# Altium footprint library USB4080-03-A_REVA.PcbLib: 1 footprints
Each footprint in its own frame and in the unit in brackets; x right, y up, seen from the top. Pads: shape width x height; smd on the part's side, far side on the other; paste and mask are expansions set on the pad; w line width, h text height; cw(c..) or ccw(c..) is an arc to the next point about the centre after c.
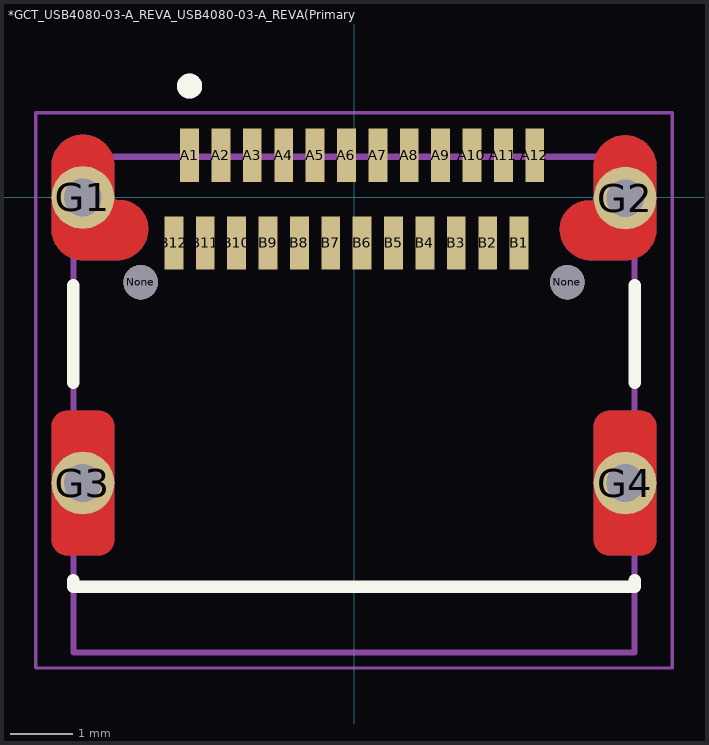
[diagram p0: the footprint, top view; thin cyan lines are the x and y axes]

## *GCT_USB4080-03-A_REVA_USB4080-03-A_REVA(Primary) [mm]
pads (30):
  rect 0.3x0.85 smd: A1(-2.62,0.675) A2(-2.12,0.675) A3(-1.62,0.675) A4(-1.12,0.675) A5(-0.62,0.675) A6(-0.12,0.675) A7(0.38,0.675) A8(0.88,0.675) A9(1.38,0.675) A10(1.88,0.675) A11(2.38,0.675) A12(2.88,0.675) B1(2.63,-0.725) B2(2.13,-0.725) B3(1.63,-0.725) B4(1.13,-0.725) B5(0.63,-0.725) B6(0.13,-0.725) B7(-0.37,-0.725) B8(-0.87,-0.725) B9(-1.37,-0.725) B10(-1.87,-0.725) B11(-2.37,-0.725) B12(-2.87,-0.725)
  round 1 hole 0.6: G1(-4.32,0) G2(4.32,-0.01) G3(-4.32,-4.55) G4(4.32,-4.55)
  round 0.55 hole 0.55 unplated: None(-3.4,-1.35) None(3.4,-1.35)
Top Layer:
  region: 4.57,-5.7 4.07,-5.7 4.057,-5.7 4.044,-5.699 4.031,-5.697 4.018,-5.695 4.005,-5.691 3.993,-5.688 3.98,-5.683 3.968,-5.678 3.956,-5.673 3.945,-5.667 3.934,-5.66 3.923,-5.652 3.913,-5.644 3.903,-5.636 3.893,-5.627 3.884,-5.617 3.876,-5.607 3.868,-5.597 3.86,-5.586 3.853,-5.575 3.847,-5.563 3.842,-5.552 3.837,-5.54 3.832,-5.527 3.829,-5.515 3.825,-5.502 3.823,-5.489 3.821,-5.476 3.82,-5.463 3.82,-5.45 3.82,-3.65 3.82,-3.637 3.821,-3.624 3.823,-3.611 3.825,-3.598 3.829,-3.585 3.832,-3.573 3.837,-3.56 3.842,-3.548 3.847,-3.537 3.853,-3.525 3.86,-3.514 3.868,-3.503 3.876,-3.493 3.884,-3.483 3.893,-3.473 3.903,-3.464 3.913,-3.456 3.923,-3.448 3.934,-3.44 3.945,-3.433 3.956,-3.427 3.968,-3.422 3.98,-3.417 3.993,-3.412 4.005,-3.409 4.018,-3.405 4.031,-3.403 4.044,-3.401 4.057,-3.4 4.07,-3.4 4.57,-3.4 4.583,-3.4 4.596,-3.401 4.609,-3.403 4.622,-3.405 4.635,-3.409 4.647,-3.412 4.66,-3.417 4.672,-3.422 4.684,-3.427 4.695,-3.433 4.706,-3.44 4.717,-3.448 4.727,-3.456 4.737,-3.464 4.747,-3.473 4.756,-3.483 4.764,-3.493 4.772,-3.503 4.78,-3.514 4.787,-3.525 4.793,-3.537 4.798,-3.548 4.803,-3.56 4.808,-3.573 4.811,-3.585 4.815,-3.598 4.817,-3.611 4.819,-3.624 4.82,-3.637 4.82,-3.65 4.82,-5.45 4.82,-5.463 4.819,-5.476 4.817,-5.489 4.815,-5.502 4.811,-5.515 4.808,-5.527 4.803,-5.54 4.798,-5.552 4.793,-5.563 4.787,-5.575 4.78,-5.586 4.772,-5.597 4.764,-5.607 4.756,-5.617 4.747,-5.627 4.737,-5.636 4.727,-5.644 4.717,-5.652 4.706,-5.66 4.695,-5.667 4.684,-5.673 4.672,-5.678 4.66,-5.683 4.647,-5.688 4.635,-5.691 4.622,-5.695 4.609,-5.697 4.596,-5.699 4.583,-5.7
  region: -4.07,-5.7 -4.57,-5.7 -4.583,-5.7 -4.596,-5.699 -4.609,-5.697 -4.622,-5.695 -4.635,-5.691 -4.647,-5.688 -4.66,-5.683 -4.672,-5.678 -4.684,-5.673 -4.695,-5.667 -4.706,-5.66 -4.717,-5.652 -4.727,-5.644 -4.737,-5.636 -4.747,-5.627 -4.756,-5.617 -4.764,-5.607 -4.772,-5.597 -4.78,-5.586 -4.787,-5.575 -4.793,-5.563 -4.798,-5.552 -4.803,-5.54 -4.808,-5.527 -4.811,-5.515 -4.815,-5.502 -4.817,-5.489 -4.819,-5.476 -4.82,-5.463 -4.82,-5.45 -4.82,-3.65 -4.82,-3.637 -4.819,-3.624 -4.817,-3.611 -4.815,-3.598 -4.811,-3.585 -4.808,-3.573 -4.803,-3.56 -4.798,-3.548 -4.793,-3.537 -4.787,-3.525 -4.78,-3.514 -4.772,-3.503 -4.764,-3.493 -4.756,-3.483 -4.747,-3.473 -4.737,-3.464 -4.727,-3.456 -4.717,-3.448 -4.706,-3.44 -4.695,-3.433 -4.684,-3.427 -4.672,-3.422 -4.66,-3.417 -4.647,-3.412 -4.635,-3.409 -4.622,-3.405 -4.609,-3.403 -4.596,-3.401 -4.583,-3.4 -4.57,-3.4 -4.07,-3.4 -4.057,-3.4 -4.044,-3.401 -4.031,-3.403 -4.018,-3.405 -4.005,-3.409 -3.993,-3.412 -3.98,-3.417 -3.968,-3.422 -3.956,-3.427 -3.945,-3.433 -3.934,-3.44 -3.923,-3.448 -3.913,-3.456 -3.903,-3.464 -3.893,-3.473 -3.884,-3.483 -3.876,-3.493 -3.868,-3.503 -3.86,-3.514 -3.853,-3.525 -3.847,-3.537 -3.842,-3.548 -3.837,-3.56 -3.832,-3.573 -3.829,-3.585 -3.825,-3.598 -3.823,-3.611 -3.821,-3.624 -3.82,-3.637 -3.82,-3.65 -3.82,-5.45 -3.82,-5.463 -3.821,-5.476 -3.823,-5.489 -3.825,-5.502 -3.829,-5.515 -3.832,-5.527 -3.837,-5.54 -3.842,-5.552 -3.847,-5.563 -3.853,-5.575 -3.86,-5.586 -3.868,-5.597 -3.876,-5.607 -3.884,-5.617 -3.893,-5.627 -3.903,-5.636 -3.913,-5.644 -3.923,-5.652 -3.934,-5.66 -3.945,-5.667 -3.956,-5.673 -3.968,-5.678 -3.98,-5.683 -3.993,-5.688 -4.005,-5.691 -4.018,-5.695 -4.031,-5.697 -4.044,-5.699 -4.057,-5.7
  region: 185 vertices and 0 holes, not listed, extent 3.28,-1 4.82,0.99
  region: 186 vertices and 0 holes, not listed, extent -4.82,-1 -3.28,1
Bottom Layer:
  region: 4.57,-5.7 4.07,-5.7 4.057,-5.7 4.044,-5.699 4.031,-5.697 4.018,-5.695 4.005,-5.691 3.993,-5.688 3.98,-5.683 3.968,-5.678 3.956,-5.673 3.945,-5.667 3.934,-5.66 3.923,-5.652 3.913,-5.644 3.903,-5.636 3.893,-5.627 3.884,-5.617 3.876,-5.607 3.868,-5.597 3.86,-5.586 3.853,-5.575 3.847,-5.563 3.842,-5.552 3.837,-5.54 3.832,-5.527 3.829,-5.515 3.825,-5.502 3.823,-5.489 3.821,-5.476 3.82,-5.463 3.82,-5.45 3.82,-3.65 3.82,-3.637 3.821,-3.624 3.823,-3.611 3.825,-3.598 3.829,-3.585 3.832,-3.573 3.837,-3.56 3.842,-3.548 3.847,-3.537 3.853,-3.525 3.86,-3.514 3.868,-3.503 3.876,-3.493 3.884,-3.483 3.893,-3.473 3.903,-3.464 3.913,-3.456 3.923,-3.448 3.934,-3.44 3.945,-3.433 3.956,-3.427 3.968,-3.422 3.98,-3.417 3.993,-3.412 4.005,-3.409 4.018,-3.405 4.031,-3.403 4.044,-3.401 4.057,-3.4 4.07,-3.4 4.57,-3.4 4.583,-3.4 4.596,-3.401 4.609,-3.403 4.622,-3.405 4.635,-3.409 4.647,-3.412 4.66,-3.417 4.672,-3.422 4.684,-3.427 4.695,-3.433 4.706,-3.44 4.717,-3.448 4.727,-3.456 4.737,-3.464 4.747,-3.473 4.756,-3.483 4.764,-3.493 4.772,-3.503 4.78,-3.514 4.787,-3.525 4.793,-3.537 4.798,-3.548 4.803,-3.56 4.808,-3.573 4.811,-3.585 4.815,-3.598 4.817,-3.611 4.819,-3.624 4.82,-3.637 4.82,-3.65 4.82,-5.45 4.82,-5.463 4.819,-5.476 4.817,-5.489 4.815,-5.502 4.811,-5.515 4.808,-5.527 4.803,-5.54 4.798,-5.552 4.793,-5.563 4.787,-5.575 4.78,-5.586 4.772,-5.597 4.764,-5.607 4.756,-5.617 4.747,-5.627 4.737,-5.636 4.727,-5.644 4.717,-5.652 4.706,-5.66 4.695,-5.667 4.684,-5.673 4.672,-5.678 4.66,-5.683 4.647,-5.688 4.635,-5.691 4.622,-5.695 4.609,-5.697 4.596,-5.699 4.583,-5.7
  region: -4.07,-5.7 -4.57,-5.7 -4.583,-5.7 -4.596,-5.699 -4.609,-5.697 -4.622,-5.695 -4.635,-5.691 -4.647,-5.688 -4.66,-5.683 -4.672,-5.678 -4.684,-5.673 -4.695,-5.667 -4.706,-5.66 -4.717,-5.652 -4.727,-5.644 -4.737,-5.636 -4.747,-5.627 -4.756,-5.617 -4.764,-5.607 -4.772,-5.597 -4.78,-5.586 -4.787,-5.575 -4.793,-5.563 -4.798,-5.552 -4.803,-5.54 -4.808,-5.527 -4.811,-5.515 -4.815,-5.502 -4.817,-5.489 -4.819,-5.476 -4.82,-5.463 -4.82,-5.45 -4.82,-3.65 -4.82,-3.637 -4.819,-3.624 -4.817,-3.611 -4.815,-3.598 -4.811,-3.585 -4.808,-3.573 -4.803,-3.56 -4.798,-3.548 -4.793,-3.537 -4.787,-3.525 -4.78,-3.514 -4.772,-3.503 -4.764,-3.493 -4.756,-3.483 -4.747,-3.473 -4.737,-3.464 -4.727,-3.456 -4.717,-3.448 -4.706,-3.44 -4.695,-3.433 -4.684,-3.427 -4.672,-3.422 -4.66,-3.417 -4.647,-3.412 -4.635,-3.409 -4.622,-3.405 -4.609,-3.403 -4.596,-3.401 -4.583,-3.4 -4.57,-3.4 -4.07,-3.4 -4.057,-3.4 -4.044,-3.401 -4.031,-3.403 -4.018,-3.405 -4.005,-3.409 -3.993,-3.412 -3.98,-3.417 -3.968,-3.422 -3.956,-3.427 -3.945,-3.433 -3.934,-3.44 -3.923,-3.448 -3.913,-3.456 -3.903,-3.464 -3.893,-3.473 -3.884,-3.483 -3.876,-3.493 -3.868,-3.503 -3.86,-3.514 -3.853,-3.525 -3.847,-3.537 -3.842,-3.548 -3.837,-3.56 -3.832,-3.573 -3.829,-3.585 -3.825,-3.598 -3.823,-3.611 -3.821,-3.624 -3.82,-3.637 -3.82,-3.65 -3.82,-5.45 -3.82,-5.463 -3.821,-5.476 -3.823,-5.489 -3.825,-5.502 -3.829,-5.515 -3.832,-5.527 -3.837,-5.54 -3.842,-5.552 -3.847,-5.563 -3.853,-5.575 -3.86,-5.586 -3.868,-5.597 -3.876,-5.607 -3.884,-5.617 -3.893,-5.627 -3.903,-5.636 -3.913,-5.644 -3.923,-5.652 -3.934,-5.66 -3.945,-5.667 -3.956,-5.673 -3.968,-5.678 -3.98,-5.683 -3.993,-5.688 -4.005,-5.691 -4.018,-5.695 -4.031,-5.697 -4.044,-5.699 -4.057,-5.7
  region: 185 vertices and 0 holes, not listed, extent 3.28,-1 4.82,0.99
  region: 186 vertices and 0 holes, not listed, extent -4.82,-1 -3.28,1
Top Overlay:
  circle w0.2: c-2.62,1.775 r0.1
  lines w0.2: -4.47,-6.1 -4.47,-6.2 4.47,-6.2 4.47,-6.1 ; -4.47,-2.95 -4.47,-1.4 ; 4.47,-2.95 4.47,-1.4
Top Solder:
  drawing of 4 lines, arcs and shapes, not listed
Bottom Solder:
  drawing of 4 lines, arcs and shapes, not listed
Outline:
  lines w0: 4,-0.2 ccw(c4.005,-0.185) 4.02,-0.19 4.02,0.5 cw(c4.32,0.5) 4.32,0.8 cw(c4.32,0.5) 4.62,0.5 4.62,-0.5 cw(c4.32,-0.5) 4.32,-0.8 3.72,-0.8 cw(c3.72,-0.5) 3.42,-0.5 cw(c3.72,-0.5) 3.72,-0.2 4,-0.2 ; -4.62,-5.35 ccw(c-4.47,-5.35) -4.47,-5.5 -4.17,-5.5 ccw(c-4.17,-5.35) -4.02,-5.35 -4.02,-3.75 ccw(c-4.17,-3.75) -4.17,-3.6 -4.47,-3.6 ccw(c-4.47,-3.75) -4.62,-3.75 -4.62,-5.35 ; -4.62,-0.5 ccw(c-4.32,-0.5) -4.32,-0.8 -3.72,-0.8 ccw(c-3.72,-0.5) -3.42,-0.5 ccw(c-3.72,-0.5) -3.72,-0.2 -4,-0.2 cw(c-4,-0.18) -4.02,-0.18 -4.02,0.5 ccw(c-4.32,0.5) -4.32,0.8 ccw(c-4.32,0.5) -4.62,0.5 -4.62,-0.5 ; 4.02,-5.35 ccw(c4.17,-5.35) 4.17,-5.5 4.47,-5.5 ccw(c4.47,-5.35) 4.62,-5.35 4.62,-3.75 ccw(c4.47,-3.75) 4.47,-3.6 4.17,-3.6 ccw(c4.17,-3.75) 4.02,-3.75 4.02,-5.35
Mechanical 4:
  circle w0.2: c-2.62,1.775 r0.1
  circle w0.2: c-2.62,1.775 r0.1
  lines w0.1: -4.47,-7.25 4.47,-7.25 ; -4.47,-7.25 -4.47,-6.2 ; -4.47,-7.25 4.47,-7.25 ; -4.47,-7.25 -4.47,-6.2 ; -4.47,-6.2 4.47,-6.2 ; -4.47,-6.2 -4.47,0.65 ; -4.47,-6.2 4.47,-6.2 ; -4.47,-6.2 -4.47,0.65 ; -4.47,0.65 4.47,0.65 ; -4.47,0.65 4.47,0.65 ; 4.47,-7.25 4.47,-6.2 ; 4.47,-7.25 4.47,-6.2 ; 4.47,-6.2 4.47,0.65 ; 4.47,-6.2 4.47,0.65
Courtyard Bottom:
  lines w0.05: -5.07,-7.5 5.07,-7.5 5.07,1.35 -5.07,1.35 -5.07,-7.5
3D body: height 3.26, standoff -0.5, extent -4.47,-7.25 4.47,1